# EAGLE library part 685119189623 (library WR-HDMI)
WR-COM HDMI SMT Horizontal Applications Industrial Imaging Home Theaters / Gaming Consumer Electronics <https://www.we-online.com/components/media/o828367v209%20685119134923_Multi-parts.jpg> Details see: www.we-online.com/en/components/products/INPUT_OUTPUT_WR_COM_HDMI_CONNECTORS <www.we-online.com/catalog/INPUT_OUTPUT_WR_COM_HDMI_CONNECTORS/?utm_source=eagle_model&utm_medium=description_link&utm_campaign=eisos_eagle> Created by Ella 2025-09-12 2025(C) Würth Elektronik
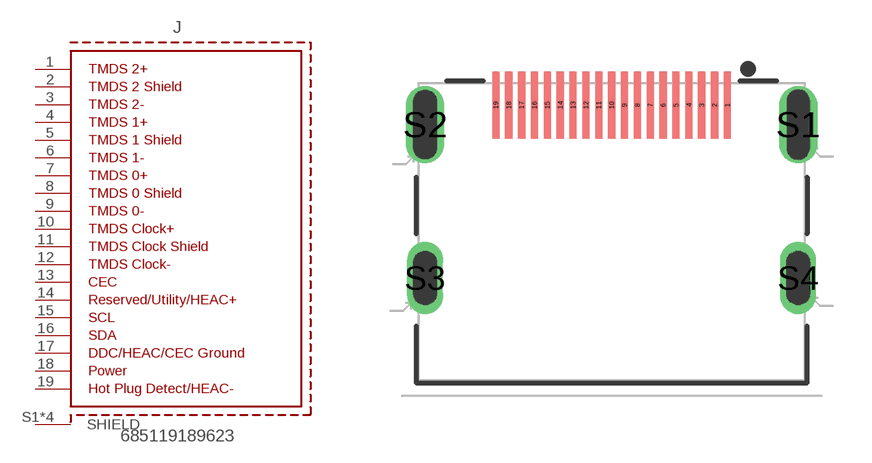
[diagram p0: symbol with the pads of 685119189623; footprint 685119189623]

Designator prefix J

## 685119189623 (APPLICATION: HDMI 2.1; DATASHEET-URL: https://www.we-online.com/redexpert/spec/685119189623?ae; GERDER: Receptacle; MOUNT: SMT; OPERATING-TEMPERATURE: -45 °C up to +85 °C; PART-NUMBER: 685119189623; PINS: 19pcs; TYPE: Horizontal; VALUE: 685119189623; WORKING-VOLTAGE: 40VAC)  [685119189623]
1  TMDS2+  pas
2  TMDS2SHIELD  pas
3  TMDS2-  pas
4  TMDS1+  pas
5  TMDS1SHIELD  pas
6  TMDS1-  pas
7  TMDS0+  pas
8  TMDS0SHIELD  pas
9  TMDS0-  pas
10  TMDSCLOCK+  pas
11  TMDSCLOCKSHIELD  pas
12  TMDSCLOCK-  pas
13  CEC  pas
14  HEC-  pas
15  SCL  pas
16  SDA  pas
17  GROUND  pas
18  POWER  pwr
19  HOTPLUG/HEC+  pas
S1  SHIELD  pas
S2  SHIELD  pas
S3  SHIELD  pas
S4  SHIELD  pas

## Footprint 685119189623 (pad centres in mm)
WR-COM HDMI Connectors HDMI 2.1, SMT, 19 pins
smd 0.28 x 2.6: 1 4.5,0; 2 4,0; 3 3.5,0; 4 3,0; 5 2.5,0; 6 2,0; 7 1.5,0; 8 1,0; 9 0.5,0; 10 0,0; 11 -0.5,0; 12 -1,0; 13 -1.5,0; 14 -2,0; 15 -2.5,0; 16 -3,0; 17 -3.5,0; 18 -4,0; 19 -4.5,0
drill 0.9 pad 1.5 long: S1 7.25,-0.76; S2 -7.25,-0.76
drill 0.9 pad 1.3 long: S3 -7.25,-6.72; S4 7.25,-6.72